# Altium footprint library Connectors_1,27mm.PcbLib: 35 footprints (part 3 of 3)
Each footprint in its own frame and in the unit in brackets; x right, y up, seen from the top. Pads: shape width x height; smd on the part's side, far side on the other; paste and mask are expansions set on the pad; w line width, h text height; cw(c..) or ccw(c..) is an arc to the next point about the centre after c.
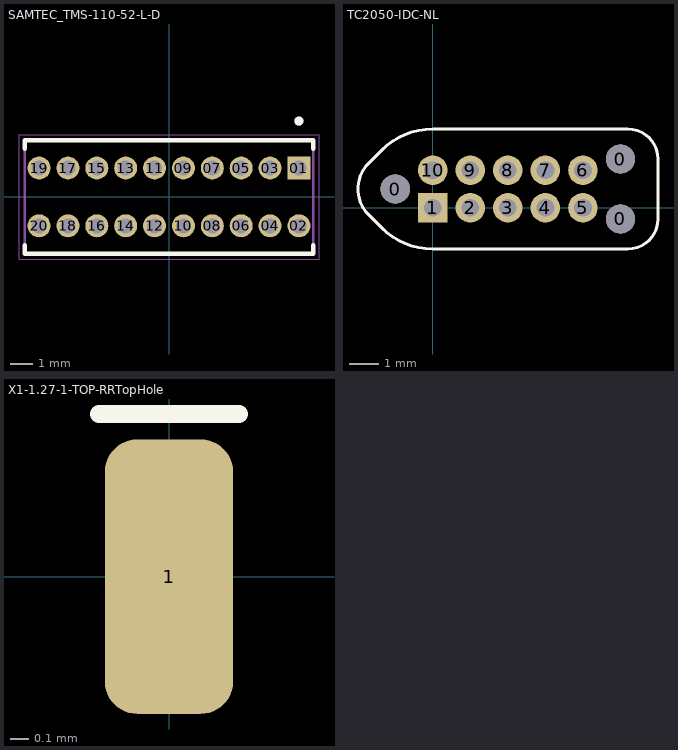
[diagram p2: the footprints below, top view; thin cyan lines are the x and y axes]

## SAMTEC_TMS-110-52-L-D [mm]
pads (20):
  rect 1.01x1.01 hole 0.66: 01(5.715,1.27)
  round 1.01 hole 0.66: 02(5.715,-1.27) 03(4.445,1.27) 04(4.445,-1.27) 05(3.175,1.27) 06(3.175,-1.27) 07(1.905,1.27) 08(1.905,-1.27) 09(0.635,1.27) 10(0.635,-1.27) 11(-0.635,1.27) 12(-0.635,-1.27) 13(-1.905,1.27) 14(-1.905,-1.27) 15(-3.175,1.27) 16(-3.175,-1.27) 17(-4.445,1.27) 18(-4.445,-1.27) 19(-5.715,1.27) 20(-5.715,-1.27)
Top Overlay:
  circle w0.2: c5.715,3.339 r0.1
  lines w0.2: -6.35,-2.125 -6.35,-2.489 6.35,-2.489 6.35,-2.125 ; -6.35,2.125 -6.35,2.489 6.35,2.489 6.35,2.125
Mechanical 13:
  circle w0.2: c5.715,3.339 r0.1
  lines w0.1: -6.35,-2.489 -6.35,2.489 6.35,2.489 6.35,-2.489 -6.35,-2.489
Mechanical 15:
  lines w0.05: -6.6,-2.739 6.6,-2.739 6.6,2.739 -6.6,2.739 -6.6,-2.739
3D body "TMS-110-52-L-D.stp": height 7.75, standoff -3.05, extent -6.35,-2.54 6.35,2.438

## TC2050-IDC-NL [mm]
pads (13):
  round 0.991 hole 0.991 unplated: 0(-1.27,0.635) 0(6.35,-0.38) 0(6.35,1.65)
  rect 1x1 hole 0.6: 1(0,0)
  round 1 hole 0.6: 2(1.27,0) 3(2.54,0) 4(3.81,0) 5(5.08,0) 6(5.08,1.27) 7(3.81,1.27) 8(2.54,1.27) 9(1.27,1.27) 10(0,1.27)
Top Overlay:
  lines w0.1: 0,-1.395 cw(c0,1.047) -1.727,-0.68 -2.251,-0.155 cw(c-1.27,0.635) -2.251,1.425 -1.727,1.95 cw(c0,0.223) 0,2.665 6.35,2.665 6.605,2.665 cw(c6.605,1.65) 7.62,1.65 7.62,-0.38 cw(c6.605,-0.38) 6.605,-1.395 0,-1.395 ; 0,-1.395 ccw(c0,-1.395) 0,-1.395 ; 0,-1.395 0,-1.395
3D body "TC2050.stp": height 42.2, standoff -1.7, extent -3.53,-2.365 8.51,3.635

## X1-1.27-1-TOP-RRTopHole [mm] "1.27mm pin header connector with 2mm body height. 4..80 pins"
pads (1):
  rrect50% 0.7x1.5 smd: 1(0,0)
Top Overlay:
  lines w0.1: -0.381,0.889 0.381,0.889